# Altium schematic symbol library PDU_YEDEK.SchLib: 83 symbols (part 8 of 10)
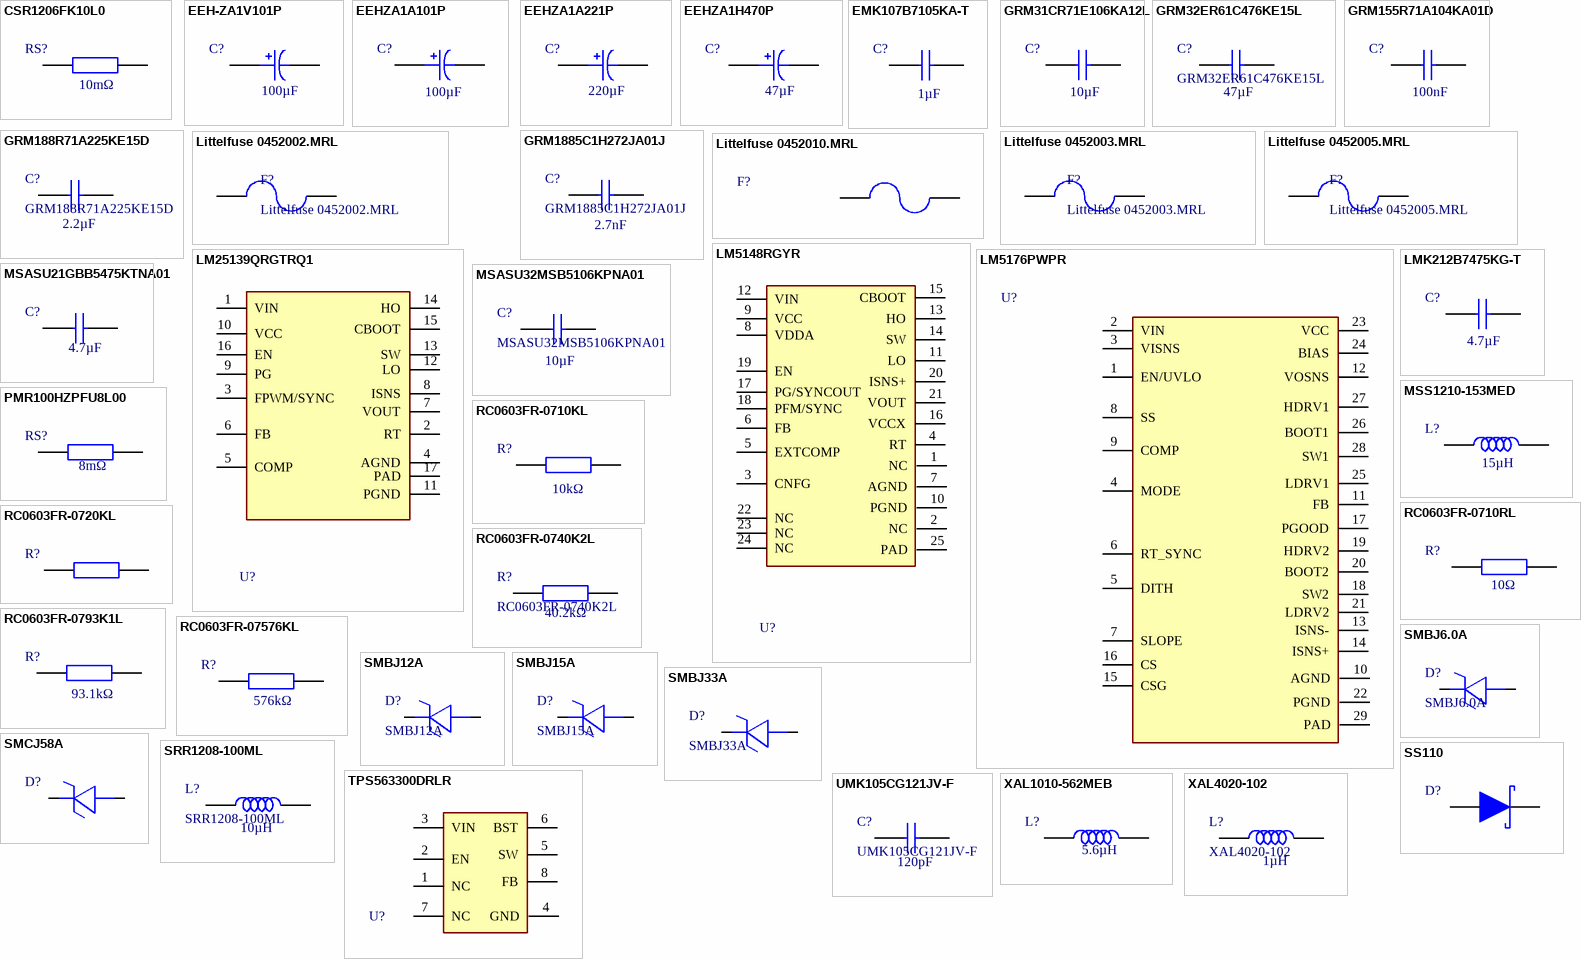
[diagram p9: symbols CSR1206FK10L0 to XAL4020‑102]

## LM5148RGYR
designator U?  (value not drawn)
3.5-V to 80-V, current mode synchronous buck controller 24-VQFN -40 to 125; Manufacturer: Texas Instruments; Manufacturer Lifecycle Status: ACTIVE; Max Duty Cycle: 100%; Max Junction Temperature (Tj): 150°C; Max Supply Voltage: 80V; Min Supply Voltage: 3.5V; Number of Outputs: 1; Output Current: 20A; Supplier: Mouser; Supplier Part Number: 595-LM5148RGYR; Manufacturer Part Number: LM5148RGYR; RoHS: Compliant; Category: Voltage Regulators - Switching; Stock: 7731; Pricing: 1=2,05, 10=1,52, 50=1,38, 100=1,24, 1000=1,09, 10000=1,04 (USD); Case/Package: VQFN; Height: 1mm; Length: 5.5mm; Lifecycle Status: Production; Max Operating Temperature: 125°C; Min Operating Temperature: -40°C; Pins: 24; Thickness: 900µm; Topology: Buck; Width: 3.5mm; ComponentLink1URL: https://octopart.com:443/opatz8j6/c1?t=k5HYukbKpAPwbY-87GrEenTJk9MNAaYavK5OGnMfo5xR5AheUhsW0QrQ__jAagB2G7ifgkNZ9LlbGgmastwPsycv2IuxuliPxyuY95BNxN18afFzmyufWtZk0CSFzD_-00jq0-d0ldnWKwAiLQLikyht430IWlpGJLcfLlqJhvIu1GeJ_Tp_edc5pT3Sfet7s6Qf0iT4HQFeU5M_DhcO5-saEgJOFs4UfDZINtzmQIr06dvlKuFFhuh85D68_nFjCJgw90UJc70QHIKhgZhI_J4VFggVK_UUHlgpmBeKA7mmUM_A-zyQhfTdxUopEqudTy3eaxTTW-bK-OyrTHR1mRCgULgnxMTN1KsRo7XVP9NWwtZL5E64bIOPOiG-shDPM5s02dQ&src-supplier=Texas+Instruments; ComponentLink1Description: https://octopart.com:443/opatz8j6/c1?t=k5HYukbKpAPwbY-87GrEenTJk9MNAaYavK5OGnMfo5xR5AheUhsW0QrQ__jAagB2G7ifgkNZ9LlbGgmastwPsycv2IuxuliPxyuY95BNxN18afFzmyufWtZk0CSFzD_-00jq0-d0ldnWKwAiLQLikyht430IWlpGJLcfLlqJhvIu1GeJ_Tp_edc5pT3Sfet7s6Qf0iT4HQFeU5M_DhcO5-saEgJOFs4UfDZINtzmQIr06dvlKuFFhuh85D68_nFjCJgw90UJc70QHIKhgZhI_J4VFggVK_UUHlgpmBeKA7mmUM_A-zyQhfTdxUopEqudTy3eaxTTW-bK-OyrTHR1mRCgULgnxMTN1KsRo7XVP9NWwtZL5E64bIOPOiG-shDPM5s02dQ&src-supplier=Texas+Instruments; ComponentLink2URL: https://datasheet.octopart.com:443/LM5148RGYR-Texas-Instruments-datasheet-170602647.pdf?src-supplier=Upverter; ComponentLink2Description: https://datasheet.octopart.com:443/LM5148RGYR-Texas-Instruments-datasheet-170602647.pdf?src-supplier=Upverter; ComponentLink3URL: http://sigma.octopart.com:80/reach_statement/Texas-Instruments-company-64.pdf?src-supplier=Compliance+Statements; ComponentLink3Description: http://sigma.octopart.com:80/reach_statement/Texas-Instruments-company-64.pdf?src-supplier=Compliance+Statements; ComponentLink4URL: http://sigma.octopart.com:80/conflict_mineral_statement/Texas-Instruments-company-63.pdf?src-supplier=Compliance+Statements; ComponentLink4Description: http://sigma.octopart.com:80/conflict_mineral_statement/Texas-Instruments-company-63.pdf?src-supplier=Compliance+Statements
pins: 1 NC, 2 NC, 3 CNFG, 4 RT, 5 EXTCOMP, 6 FB, 7 AGND, 8 VDDA, 9 VCC, 10 PGND, 11 LO, 12 VIN, 13 HO, 14 SW, 15 CBOOT, 16 VCCX, 17 PG/SYNCOUT, 18 PFM/SYNC, 19 EN, 20 ISNS+, 21 VOUT, 22 NC, 23 NC, 24 NC, 25 PAD

## LM5176PWPR
designator U?  (value not drawn)
55V wide VIN synchronous 4-switch buck-boost controller 28-HTSSOP -40 to 125; Manufacturer: Texas Instruments; Manufacturer Lifecycle Status: ACTIVE; Supplier: Mouser; Supplier Part Number: 595-LM5176PWPR; Manufacturer Part Number: LM5176PWPR; RoHS: Compliant; Category: Integrated Circuits (ICs); Pricing: 1=7,76, 10=6,01, 50=5,57, 100=5,09, 1000=4,6, 10000=4,49 (USD); Height: 1.2mm; Length: 9.7mm; Lifecycle Status: Production; Max Operating Temperature: 125°C; Min Operating Temperature: -40°C; Pins: 28; Schedule B: 8542390000, 8542390000|8542390000|8542390000|8542390000|8542390000; Thickness: 1mm; Topology: Buck-Boost; Width: 4.4mm; ComponentLink1URL: https://sigma.octopart.com:443/149651771/technical_drawing/Texas-Instruments-LM5176PWPR.pdf?src-supplier=Texas+Instruments; ComponentLink1Description: https://sigma.octopart.com:443/149651771/technical_drawing/Texas-Instruments-LM5176PWPR.pdf?src-supplier=Texas+Instruments; ComponentLink2URL: https://octopart.com:443/opatz8j6/c1?t=VRVCafI7s4bG6Zztb8L5r4sLVycBteGLKy5QNf2tGBRTrExigyXOC3PxYErzrsW-NWfD2akeI0Mwe2lBl-DnnI-aA4uHqNyZ5fJqmZ0gkornEqr1DphlO8x3EFdGiIoRxV-N_ppNlyskWHdhRPH9UFmqZ5vi8bQwXlyuc7Nt_alLaVBSszRnRlwkze-xCxAhCGWBAN-Y4Gck8wVEadC_CYKFUFw2xfWVguqijkFkfTQnnUqPAM6sWVKoaOeIfvvRLiDyuYhKva3w8gyjtartpVG7eUF3NFqkx_slddxatLizdWKM18OUpNkaXntHx7Rl8YrZdbA-8oy12CfJVVs4hKkeON3tTWmjAb9cDMFPN-JuPjzhCn8fsFGdUAdgH2v9CWvG&src-supplier=Texas+Instruments; ComponentLink2Description: https://octopart.com:443/opatz8j6/c1?t=VRVCafI7s4bG6Zztb8L5r4sLVycBteGLKy5QNf2tGBRTrExigyXOC3PxYErzrsW-NWfD2akeI0Mwe2lBl-DnnI-aA4uHqNyZ5fJqmZ0gkornEqr1DphlO8x3EFdGiIoRxV-N_ppNlyskWHdhRPH9UFmqZ5vi8bQwXlyuc7Nt_alLaVBSszRnRlwkze-xCxAhCGWBAN-Y4Gck8wVEadC_CYKFUFw2xfWVguqijkFkfTQnnUqPAM6sWVKoaOeIfvvRLiDyuYhKva3w8gyjtartpVG7eUF3NFqkx_slddxatLizdWKM18OUpNkaXntHx7Rl8YrZdbA-8oy12CfJVVs4hKkeON3tTWmjAb9cDMFPN-JuPjzhCn8fsFGdUAdgH2v9CWvG&src-supplier=Texas+Instruments; ComponentLink3URL: https://sigma.octopart.com:443/49250896/technical_drawing/Texas-Instruments-LM5176PWPR.pdf?src-supplier=Texas+Instruments; ComponentLink3Description: https://sigma.octopart.com:443/49250896/technical_drawing/Texas-Instruments-LM5176PWPR.pdf?src-supplier=Texas+Instruments; ComponentLink4URL: http://sigma.octopart.com:80/reach_statement/Texas-Instruments-company-64.pdf?src-supplier=Compliance+Statements; ComponentLink4Description: http://sigma.octopart.com:80/reach_statement/Texas-Instruments-company-64.pdf?src-supplier=Compliance+Statements; ComponentLink5URL: http://sigma.octopart.com:80/conflict_mineral_statement/Texas-Instruments-company-63.pdf?src-supplier=Compliance+Statements; ComponentLink5Description: http://sigma.octopart.com:80/conflict_mineral_statement/Texas-Instruments-company-63.pdf?src-supplier=Compliance+Statements
pins: 1 EN/UVLO, 2 VIN, 3 VISNS, 4 MODE, 5 DITH, 6 RT_SYNC, 7 SLOPE, 8 SS, 9 COMP, 10 AGND, 11 FB, 12 VOSNS, 13 ISNS-, 14 ISNS+, 15 CSG, 16 CS, 17 PGOOD, 18 SW2, 19 HDRV2, 20 BOOT2, 21 LDRV2, 22 PGND, 23 VCC, 24 BIAS, 25 LDRV1, 26 BOOT1, 27 HDRV1, 28 SW1, 29 PAD

## LM25139QRGTRQ1
designator U?  (value not drawn)
Automotive 42V input low-Iq buck controller with advanced spread spectrum for low EMI 16-VQFN -40 to 150; Manufacturer: Texas Instruments; Manufacturer Lifecycle Status: ACTIVE; Supplier: Arrow Electronics; Supplier Part Number: LM25139QRGTRQ1; Manufacturer Part Number: LM25139QRGTRQ1; RoHS: Compliant; Category: Integrated Circuits (ICs); Pricing: 3000=1,4038, 6000=1,3973, 9000=1,3906, 12000=1,384, 15000=1,3772, 21000=1,3704, 24000=1,3635, 30000=1,3565, 75000=1,3494 (USD); Case/Package: VQFN; Height: 1mm; Length: 3mm; Lifecycle Status: Production; Pins: 16; Thickness: 900µm; Width: 3mm; ComponentLink1URL: https://octopart.com:443/opatz8j6/c1?t=xWWGwO3ec4Sx5CX0X2qnIhfOHeHqh3WO1mWCu4fV70Hd-1hWOrNd3lhOLVAWMYEEdzkDMYq8UgUcPu2a5nJWOdgA0b1awjV5RgR9D21gaMlGiLRjb7yDuVOicm1d_02R7igS8Xl7-riSRfD_iig_z43OjN5LLsjZDt-zpIDOeZS1dmRgmlIMnUHEnLRcU50Rs-JpA3b7vouLRhIT49FH8fzbO6qOR_6mRAVC4kh14i2ZohtaykkOFzOvEuXGiEP1bYPJMrSXFUnpstjeZJ5v1PNY2ZRTlMohWo1i0R4TEEEijwc0FwBrv5FRwCkRRvUZM3VTnVJr8q7ERahnvQ1r2dQr48eXvtum-5d3g9rmVpLBhcUjM08_c0KTsN9BfI_8WmgwxHDs6sfT&src-supplier=Texas+Instruments; ComponentLink1Description: https://octopart.com:443/opatz8j6/c1?t=xWWGwO3ec4Sx5CX0X2qnIhfOHeHqh3WO1mWCu4fV70Hd-1hWOrNd3lhOLVAWMYEEdzkDMYq8UgUcPu2a5nJWOdgA0b1awjV5RgR9D21gaMlGiLRjb7yDuVOicm1d_02R7igS8Xl7-riSRfD_iig_z43OjN5LLsjZDt-zpIDOeZS1dmRgmlIMnUHEnLRcU50Rs-JpA3b7vouLRhIT49FH8fzbO6qOR_6mRAVC4kh14i2ZohtaykkOFzOvEuXGiEP1bYPJMrSXFUnpstjeZJ5v1PNY2ZRTlMohWo1i0R4TEEEijwc0FwBrv5FRwCkRRvUZM3VTnVJr8q7ERahnvQ1r2dQr48eXvtum-5d3g9rmVpLBhcUjM08_c0KTsN9BfI_8WmgwxHDs6sfT&src-supplier=Texas+Instruments; ComponentLink2URL: http://sigma.octopart.com:80/reach_statement/Texas-Instruments-company-64.pdf?src-supplier=Compliance+Statements; ComponentLink2Description: http://sigma.octopart.com:80/reach_statement/Texas-Instruments-company-64.pdf?src-supplier=Compliance+Statements; ComponentLink3URL: http://sigma.octopart.com:80/conflict_mineral_statement/Texas-Instruments-company-63.pdf?src-supplier=Compliance+Statements; ComponentLink3Description: http://sigma.octopart.com:80/conflict_mineral_statement/Texas-Instruments-company-63.pdf?src-supplier=Compliance+Statements
pins: 1 VIN, 2 RT, 3 FPWM/SYNC, 4 AGND, 5 COMP, 6 FB, 7 VOUT, 8 ISNS, 9 PG, 10 VCC, 11 PGND, 12 LO, 13 SW, 14 HO, 15 CBOOT, 16 EN, 17 PAD

## LMK212B7475KG-T
designator C?  value 4.7µF  (hidden comment: LMK212B7475KG-T)
10V 4.7uF X7R ±10% 0805 Multilayer Ceramic Capacitors MLCC - SMD/SMT ROHS; Manufacturer: TAIYO YUDEN; Manufacturer Package Identifier: 0805 (2012 metric); Supplier: Future Electronics; Supplier Part Number: LMK212B7475KG-T; Manufacturer Part Number: LMK212B7475KG-T; RoHS: Compliant; Category: Ceramic Capacitors; Stock: 486000; Pricing: 3000=0,0271, 9000=0,0264, 15000=0,0261, 30000=0,0257, 60000=0,025 (USD); Case/Package: 0805; Case Code (Imperial): 0805; Case Code (Metric): 2012; Country of Origin: Japan, Mainland China, Malaysia, South Korea; Dielectric: X7R; Dielectric Material: Ceramic; Export Control Classification Number (ECCN) Code: EAR99; Halogen Free: Halogen Free; Height: 1.25mm; Harmonized Tariff Schedule (HTS) Code: 8532.24.00.20; Introduction Date: 2008-08-30; Length: 2mm; Lifecycle Status: Production; LTB Date: 2026-03-31; LTD Date: 2026-03-31; Material: Ceramic; Max Length: 2.1mm; Max Operating Temperature: 125°C; Max Thickness: 1.35mm; Max Width: 1.35mm; Min Length: 1.9mm; Min Operating Temperature: -55°C; Min Thickness: 1.15mm; Min Width: 1.15mm; Mounting Technology: Surface Mount; Pins: 2; Number of Terminals: 2; REACH SVHC: Yes; Schedule B: 8532240020; Termination: SMD/SMT; Thickness: 1.3462mm; Tolerance: 10%; Voltage Rating: 10V; Voltage Rating (DC): 10V; Width: 1.25mm; ComponentLink1URL: https://datasheet.octopart.com:443/LMK212B7475KG-T-Taiyo-Yuden-datasheet-182109618.pdf?src-supplier=IHS; ComponentLink1Description: https://datasheet.octopart.com:443/LMK212B7475KG-T-Taiyo-Yuden-datasheet-182109618.pdf?src-supplier=IHS; ComponentLink2URL: https://datasheet.octopart.com:443/LMK212B7475KG-T-Taiyo-Yuden-datasheet-99833425.pdf?src-supplier=Upverter; ComponentLink2Description: https://datasheet.octopart.com:443/LMK212B7475KG-T-Taiyo-Yuden-datasheet-99833425.pdf?src-supplier=Upverter; ComponentLink3URL: https://datasheet.octopart.com:443/LMK212B7475KG-T-Taiyo-Yuden-datasheet-10851928.pdf?src-supplier=Farnell; ComponentLink3Description: https://datasheet.octopart.com:443/LMK212B7475KG-T-Taiyo-Yuden-datasheet-10851928.pdf?src-supplier=Farnell; ComponentLink4URL: https://datasheet.octopart.com:443/LMK212B7475KG-T-Taiyo-Yuden-datasheet-10254988.pdf?src-supplier=Farnell; ComponentLink4Description: https://datasheet.octopart.com:443/LMK212B7475KG-T-Taiyo-Yuden-datasheet-10254988.pdf?src-supplier=Farnell; ComponentLink5URL: https://datasheet.octopart.com:443/LMK212B7475KG-T-Taiyo-Yuden-datasheet-154807926.pdf?src-supplier=JRH+Electronics; ComponentLink5Description: https://datasheet.octopart.com:443/LMK212B7475KG-T-Taiyo-Yuden-datasheet-154807926.pdf?src-supplier=JRH+Electronics; ComponentLink6URL: https://datasheet.octopart.com:443/LMK212B7475KG-T-Taiyo-Yuden-datasheet-159617013.pdf?src-supplier=Newark; ComponentLink6Description: https://datasheet.octopart.com:443/LMK212B7475KG-T-Taiyo-Yuden-datasheet-159617013.pdf?src-supplier=Newark; ComponentLink7URL: https://datasheet.octopart.com:443/LMK212B7475KG-T-Taiyo-Yuden-datasheet-65850919.pdf?src-supplier=Newark; ComponentLink7Description: https://datasheet.octopart.com:443/LMK212B7475KG-T-Taiyo-Yuden-datasheet-65850919.pdf?src-supplier=Newark; ComponentLink8URL: https://datasheet.octopart.com:443/LMK212B7475KG-T-Taiyo-Yuden-datasheet-8857305.pdf?src-supplier=Newark; ComponentLink8Description: https://datasheet.octopart.com:443/LMK212B7475KG-T-Taiyo-Yuden-datasheet-8857305.pdf?src-supplier=Newark; ComponentLink9URL: https://datasheet.octopart.com:443/LMK212B7475KG-T-Taiyo-Yuden-datasheet-8434558.pdf?src-supplier=Newark; ComponentLink9Description: https://datasheet.octopart.com:443/LMK212B7475KG-T-Taiyo-Yuden-datasheet-8434558.pdf?src-supplier=Newark; ComponentLink10URL: https://datasheet.octopart.com:443/LMK212B7475KG-T-Taiyo-Yuden-datasheet-140424376.pdf?src-supplier=Master+Electronics; ComponentLink10Description: https://datasheet.octopart.com:443/LMK212B7475KG-T-Taiyo-Yuden-datasheet-140424376.pdf?src-supplier=Master+Electronics; ComponentLink11URL: https://datasheet.octopart.com/LMK212B7475KG-T-Taiyo-Yuden-datasheet-13694806.pdf; ComponentLink11Description: https://datasheet.octopart.com/LMK212B7475KG-T-Taiyo-Yuden-datasheet-13694806.pdf; ComponentLink12URL: https://datasheet.octopart.com:443/LMK212B7475KG-T-Taiyo-Yuden-datasheet-11762034.pdf?src-supplier=element14+APAC; ComponentLink12Description: https://datasheet.octopart.com:443/LMK212B7475KG-T-Taiyo-Yuden-datasheet-11762034.pdf?src-supplier=element14+APAC; ComponentLink13URL: https://datasheet.octopart.com:443/LMK212B7475KG-T-Taiyo-Yuden-datasheet-138738940.pdf?src-supplier=Taiyo+Yuden+SCT; ComponentLink13Description: https://datasheet.octopart.com:443/LMK212B7475KG-T-Taiyo-Yuden-datasheet-138738940.pdf?src-supplier=Taiyo+Yuden+SCT; ComponentLink14URL: https://datasheet.octopart.com:443/LMK212B7475KG-T-Taiyo-Yuden-datasheet-99784816.pdf?src-supplier=Future+Electronics; ComponentLink14Description: https://datasheet.octopart.com:443/LMK212B7475KG-T-Taiyo-Yuden-datasheet-99784816.pdf?src-supplier=Future+Electronics; ComponentLink15URL: https://datasheet.octopart.com:443/LMK212B7475KG-T-Taiyo-Yuden-datasheet-99833418.pdf?src-supplier=Future+Electronics; ComponentLink15Description: https://datasheet.octopart.com:443/LMK212B7475KG-T-Taiyo-Yuden-datasheet-99833418.pdf?src-supplier=Future+Electronics; ComponentLink16URL: https://datasheet.octopart.com:443/LMK212B7475KG-T-Taiyo-Yuden-datasheet-62109503.pdf?src-supplier=Electro+Sonic; ComponentLink16Description: https://datasheet.octopart.com:443/LMK212B7475KG-T-Taiyo-Yuden-datasheet-62109503.pdf?src-supplier=Electro+Sonic; ComponentLink17URL: https://datasheet.octopart.com:443/LMK212B7475KG-T-Taiyo-Yuden-datasheet-41181457.pdf?src-supplier=Electro+Sonic; ComponentLink17Description: https://datasheet.octopart.com:443/LMK212B7475KG-T-Taiyo-Yuden-datasheet-41181457.pdf?src-supplier=Electro+Sonic; ComponentLink18URL: https://datasheet.octopart.com:443/LMK212B7475KG-T-Taiyo-Yuden-datasheet-14433612.pdf?src-supplier=Factory+Futures; ComponentLink18Description: https://datasheet.octopart.com:443/LMK212B7475KG-T-Taiyo-Yuden-datasheet-14433612.pdf?src-supplier=Factory+Futures
pins: 1, 2

## MSASU21GBB5475KTNA01
designator C?  value 4.7µF  (hidden comment: MSASU21GBB5475KTNA01)
Ceramic Capacitor, Multilayer, Ceramic, 50V, 10% +Tol, 10% -Tol, X5R, 15% TC, 4.7uF, Surface Mount, 0805; Manufacturer: TAIYO YUDEN; Supplier: Avnet; Supplier Part Number: MSASU21GBB5475KTNA01; Manufacturer Part Number: MSASU21GBB5475KTNA01; RoHS: Compliant; Category: Ceramic Capacitors; Pricing: 3000=0,06229, 30000=0,05448, 300000=0,05335, 1800000=0,05308, 3600000=0,0528 (USD); Case/Package: 0805; Dielectric Material: Ceramic; Height: 1.25mm; Length: 2mm; Lifecycle Status: Production; Max Operating Temperature: 85°C; Min Operating Temperature: -55°C; Mounting Technology: Surface Mount; Number of Terminals: 2; REACH SVHC: Yes; Voltage Rating (DC): 50V; Width: 1.25mm; ComponentLink1URL: https://datasheet.octopart.com:443/MSASU21GBB5475KTNA01-Taiyo-Yuden-datasheet-182126628.pdf?src-supplier=IHS; ComponentLink1Description: https://datasheet.octopart.com:443/MSASU21GBB5475KTNA01-Taiyo-Yuden-datasheet-182126628.pdf?src-supplier=IHS
pins: 1, 2

## MSASU32MSB5106KPNA01
designator C?  value 10µF
Ceramic Capacitor, Multilayer, Ceramic, 50V, 10% +Tol, 10% -Tol, X5R, 15% TC, 10uF, Surface Mount, 1210; Manufacturer: TAIYO YUDEN; Supplier: Future Electronics; Supplier Part Number: MSASU32MSB5106KPNA01; Manufacturer Part Number: MSASU32MSB5106KPNA01; RoHS: Compliant; Category: Ceramic Capacitors; Stock: 5000; Pricing: 1000=0,171, 2000=0,168, 3000=0,167, 5000=0,166, 10000=0,162 (USD); Case/Package: 1210; Dielectric Material: Ceramic; Export Control Classification Number (ECCN) Code: EAR99; Height: 2.5mm; Harmonized Tariff Schedule (HTS) Code: 8532.24.00.20; Introduction Date: 2022-06-09; Length: 3.2mm; Lifecycle Status: Production; Max Operating Temperature: 85°C; Min Operating Temperature: -55°C; Mounting Technology: Surface Mount; Number of Terminals: 2; REACH SVHC: Yes; Voltage Rating (DC): 50V; Width: 2.5mm; ComponentLink1URL: https://datasheet.octopart.com:443/MSASU32MSB5106KPNA01-Taiyo-Yuden-datasheet-182126659.pdf?src-supplier=IHS; ComponentLink1Description: https://datasheet.octopart.com:443/MSASU32MSB5106KPNA01-Taiyo-Yuden-datasheet-182126659.pdf?src-supplier=IHS
pins: 1, 2

## MSS1210-153MED
designator L?  value 15µH  (hidden comment: MSS1210-153MED)
General Purpose Inductor, 15uH, 20%, 1 Element, Ferrite-Core, SMD, 4848, CHIP, 4747; Manufacturer: Coilcraft; DC Resistance (DCR): 22mΩ; Max Current Rating: 5.7A; Max DC Current: 8.7A; Number of Circuits: 1; Saturation Current: 8.3A; Self Resonant Frequency: 12MHz; Shielding: Shielded; Test Frequency: 100kHz; Supplier: Farnell; Supplier Part Number: MSS1210-153MED; Manufacturer Part Number: MSS1210-153MED; RoHS: Compliant; Category: Fixed Inductors; Stock: 1322; Pricing: 1=4,65, 10=4,42, 25=4,19, 50=3,96, 100=3,11, 300=2,49 (EUR); Case/Package: SMD/SMT; Core Material: Ferrite; Height: 10mm; Inductance Tolerance: 20%; Lead Free: Contains Lead; Length: 12mm; Lifecycle Status: Production; Max Operating Temperature: 85°C; Min Operating Temperature: -40°C; Mounting Technology: Surface Mount; Number of Terminals: 2; Packaging: Cut Tape; Ratings: AEC-Q200; REACH SVHC: Yes; RMS Current (Irms): 8.7A; Termination: SMD/SMT; Tolerance: 20%; Width: 12mm; ComponentLink1URL: https://datasheet.octopart.com:443/MSS1210-153MED-Coilcraft-datasheet-180119303.pdf?src-supplier=IHS; ComponentLink1Description: https://datasheet.octopart.com:443/MSS1210-153MED-Coilcraft-datasheet-180119303.pdf?src-supplier=IHS; ComponentLink2URL: https://datasheet.octopart.com:443/MSS1210-153MED-Coilcraft-datasheet-14354322.pdf?src-supplier=Newark; ComponentLink2Description: https://datasheet.octopart.com:443/MSS1210-153MED-Coilcraft-datasheet-14354322.pdf?src-supplier=Newark; ComponentLink3URL: https://datasheet.octopart.com:443/MSS1210-153MED-Coilcraft-datasheet-17369939.pdf?src-supplier=Coilcraft+Direct; ComponentLink3Description: https://datasheet.octopart.com:443/MSS1210-153MED-Coilcraft-datasheet-17369939.pdf?src-supplier=Coilcraft+Direct
pins: 1, 2

## PMR100HZPFU8L00
designator RS?  value 8mΩ  (hidden comment: PMR100HZPFU8L00)
Res Current Sense Thick Film 2512 8m Ohm 1% 2W Molded Emboss T/R; Manufacturer: ROHM; Temperature Coefficient: 100ppm/°C; Supplier: Arrow Electronics; Supplier Part Number: PMR100HZPFU8L00; Manufacturer Part Number: PMR100HZPFU8L00; RoHS: Compliant; Category: Chip SMD Resistors; Stock: 5; Pricing: 1=0,0146 (USD); Case/Package: 2512; Height: 320µm; Lead Free: Lead Free; Length: 6.4mm; Lifecycle Status: Production; Max Operating Temperature: 155°C; Min Operating Temperature: -55°C; Mounting Technology: Surface Mount; Number of Terminals: 2; Packaging: Cut Tape; Power Rating: 2W; REACH SVHC: Yes; Schedule B: 8533210045, 8533210045|8533210045, 8533210045|8533210045|8533210045, 8533210045|8533210045|8533210045|8533210045; Tolerance: 1%; Width: 3.2mm; ComponentLink1URL: https://datasheet.octopart.com:443/PMR100HZPFU8L00-ROHM-datasheet-182147691.pdf?src-supplier=IHS; ComponentLink1Description: https://datasheet.octopart.com:443/PMR100HZPFU8L00-ROHM-datasheet-182147691.pdf?src-supplier=IHS; ComponentLink2URL: https://datasheet.octopart.com:443/PMR100HZPFU8L00-Rohm-datasheet-70730905.pdf?src-supplier=Newark; ComponentLink2Description: https://datasheet.octopart.com:443/PMR100HZPFU8L00-Rohm-datasheet-70730905.pdf?src-supplier=Newark; ComponentLink3URL: https://datasheet.octopart.com:443/PMR100HZPFU8L00-Rohm-datasheet-115132289.pdf?src-supplier=Future+Electronics; ComponentLink3Description: https://datasheet.octopart.com:443/PMR100HZPFU8L00-Rohm-datasheet-115132289.pdf?src-supplier=Future+Electronics; ComponentLink4URL: https://datasheet.octopart.com:443/PMR100HZPFU8L00-Rohm-datasheet-79607662.pdf?src-supplier=Future+Electronics; ComponentLink4Description: https://datasheet.octopart.com:443/PMR100HZPFU8L00-Rohm-datasheet-79607662.pdf?src-supplier=Future+Electronics; ComponentLink5URL: https://datasheet.octopart.com:443/PMR100HZPFU8L00-Rohm-datasheet-13297471.pdf?src-supplier=Future+Electronics; ComponentLink5Description: https://datasheet.octopart.com:443/PMR100HZPFU8L00-Rohm-datasheet-13297471.pdf?src-supplier=Future+Electronics; ComponentLink6URL: https://datasheet.octopart.com:443/PMR100HZPFU8L00-Rohm-datasheet-12511488.pdf?src-supplier=Future+Electronics; ComponentLink6Description: https://datasheet.octopart.com:443/PMR100HZPFU8L00-Rohm-datasheet-12511488.pdf?src-supplier=Future+Electronics; ComponentLink7URL: https://datasheet.octopart.com:443/PMR100HZPFU8L00-Rohm-datasheet-12525732.pdf?src-supplier=Future+Electronics; ComponentLink7Description: https://datasheet.octopart.com:443/PMR100HZPFU8L00-Rohm-datasheet-12525732.pdf?src-supplier=Future+Electronics; ComponentLink8URL: https://datasheet.octopart.com:443/PMR100HZPFU8L00-Rohm-datasheet-12543072.pdf?src-supplier=Future+Electronics; ComponentLink8Description: https://datasheet.octopart.com:443/PMR100HZPFU8L00-Rohm-datasheet-12543072.pdf?src-supplier=Future+Electronics
pins: 1, 2

## RC0603FR-0710KL
designator R?  value 10kΩ  (hidden comment: RC0603FR-0710KL)
100mW Thick Film Resistors 75V ±100ppm/℃ ±1% 10kΩ 0603 Chip Resistor - Surface Mount ROHS; Manufacturer: Yageo Group; Temperature Coefficient: 100ppm/°C; Voltage Rating (DC): 50V; Supplier: Farnell; Supplier Part Number: RC0603FR-0710KL; Manufacturer Part Number: RC0603FR-0710KL; RoHS: Compliant; Category: Chip SMD Resistors; Stock: 11423000; Pricing: 5000=0,0037 (EUR); Case/Package: 0603; Case Code (Imperial): 0603; Case Code (Metric): 0603; China RoHS: Non-Compliant; Composition: Thick Film; Contact Plating: Tin; Depth: 800µm; Height: 450µm; Lead Free: Lead Free; Lead Pitch: 300µm; Length: 1.6mm; Lifecycle Status: Production; Max Operating Temperature: 155°C; Military Standard: Not; Min Operating Temperature: -55°C; Mounting Technology: Surface Mount; Pins: 2; Number of Terminals: 2; Packaging: Tape & Reel; Power Rating: 100mW; Radiation Hardening: No; REACH SVHC: Yes; Schedule B: 8533210045, 8533210045|8533210045|8533210045|8533210045|8533210045|8533210045|8533210045|8533210045|8533210045|8533210045|8533210045|8533210045|8533210045|8533210045|8533210045|8533210045|8533210045|8533210045|8533210045|8533210045|8533210045|8533210045|8533210045|85; Termination: SMD/SMT; Tolerance: 1%; Voltage Rating: 75V; Weight: 2.012816mg; Width: 800µm; Working Voltage: 75V; ComponentLink1URL: https://datasheet.octopart.com:443/RC0603FR-0710KL-Yageo-datasheet-175887523.pdf?src-supplier=IHS; ComponentLink1Description: https://datasheet.octopart.com:443/RC0603FR-0710KL-Yageo-datasheet-175887523.pdf?src-supplier=IHS; ComponentLink2URL: https://datasheet.octopart.com:443/RC0603FR-0710KL-Yageo-datasheet-103092701.pdf?src-supplier=Upverter; ComponentLink2Description: https://datasheet.octopart.com:443/RC0603FR-0710KL-Yageo-datasheet-103092701.pdf?src-supplier=Upverter; ComponentLink3URL: https://datasheet.octopart.com:443/RC0603FR-0710KL-Yageo-datasheet-98239111.pdf?src-supplier=Upverter; ComponentLink3Description: https://datasheet.octopart.com:443/RC0603FR-0710KL-Yageo-datasheet-98239111.pdf?src-supplier=Upverter; ComponentLink4URL: https://datasheet.octopart.com:443/RC0603FR-0710KL-Yageo-datasheet-141265859.pdf?src-supplier=Upverter; ComponentLink4Description: https://datasheet.octopart.com:443/RC0603FR-0710KL-Yageo-datasheet-141265859.pdf?src-supplier=Upverter; ComponentLink5URL: https://sigma.octopart.com:443/138820526/technical_drawing/Yageo-RC0603FR-0710KL.pdf?src-supplier=Upverter; ComponentLink5Description: https://sigma.octopart.com:443/138820526/technical_drawing/Yageo-RC0603FR-0710KL.pdf?src-supplier=Upverter; ComponentLink6URL: https://datasheet.octopart.com:443/RC0603FR-0710KL-Yageo-datasheet-8328172.pdf?src-supplier=Farnell; ComponentLink6Description: https://datasheet.octopart.com:443/RC0603FR-0710KL-Yageo-datasheet-8328172.pdf?src-supplier=Farnell; ComponentLink7URL: https://datasheet.octopart.com:443/RC0603FR-0710KL-Yageo-datasheet-13691069.pdf?src-supplier=Farnell; ComponentLink7Description: https://datasheet.octopart.com:443/RC0603FR-0710KL-Yageo-datasheet-13691069.pdf?src-supplier=Farnell; ComponentLink8URL: https://datasheet.octopart.com:443/RC0603FR-0710KL-Yageo-datasheet-62067350.pdf?src-supplier=element14+APAC; ComponentLink8Description: https://datasheet.octopart.com:443/RC0603FR-0710KL-Yageo-datasheet-62067350.pdf?src-supplier=element14+APAC; ComponentLink9URL: https://datasheet.octopart.com:443/RC0603FR-0710KL-Yageo-datasheet-17842380.pdf?src-supplier=element14+APAC; ComponentLink9Description: https://datasheet.octopart.com:443/RC0603FR-0710KL-Yageo-datasheet-17842380.pdf?src-supplier=element14+APAC; ComponentLink10URL: https://datasheet.octopart.com:443/RC0603FR-0710KL-Yageo-datasheet-15599030.pdf?src-supplier=Future+Electronics; ComponentLink10Description: https://datasheet.octopart.com:443/RC0603FR-0710KL-Yageo-datasheet-15599030.pdf?src-supplier=Future+Electronics; ComponentLink11URL: https://datasheet.octopart.com:443/RC0603FR-0710KL-Yageo-Group-datasheet-176638170.pdf?src-supplier=Future+Electronics; ComponentLink11Description: https://datasheet.octopart.com:443/RC0603FR-0710KL-Yageo-Group-datasheet-176638170.pdf?src-supplier=Future+Electronics; ComponentLink12URL: https://datasheet.octopart.com:443/RC0603FR-0710KL-Yageo-datasheet-164759695.pdf?src-supplier=Future+Electronics; ComponentLink12Description: https://datasheet.octopart.com:443/RC0603FR-0710KL-Yageo-datasheet-164759695.pdf?src-supplier=Future+Electronics; ComponentLink13URL: https://datasheet.octopart.com:443/RC0603FR-0710KL-Yageo-datasheet-127823281.pdf?src-supplier=Future+Electronics; ComponentLink13Description: https://datasheet.octopart.com:443/RC0603FR-0710KL-Yageo-datasheet-127823281.pdf?src-supplier=Future+Electronics; ComponentLink14URL: https://datasheet.octopart.com:443/RC0603FR-0710KL-Yageo-datasheet-137700087.pdf?src-supplier=Future+Electronics; ComponentLink14Description: https://datasheet.octopart.com:443/RC0603FR-0710KL-Yageo-datasheet-137700087.pdf?src-supplier=Future+Electronics; ComponentLink15URL: https://datasheet.octopart.com:443/RC0603FR-0710KL-Yageo-datasheet-27584510.pdf?src-supplier=Future+Electronics; ComponentLink15Description: https://datasheet.octopart.com:443/RC0603FR-0710KL-Yageo-datasheet-27584510.pdf?src-supplier=Future+Electronics; ComponentLink16URL: https://datasheet.octopart.com:443/RC0603FR-0710KL-Yageo-datasheet-8324193.pdf?src-supplier=Future+Electronics; ComponentLink16Description: https://datasheet.octopart.com:443/RC0603FR-0710KL-Yageo-datasheet-8324193.pdf?src-supplier=Future+Electronics; ComponentLink17URL: https://datasheet.octopart.com:443/RC0603FR-0710KL-Yageo-datasheet-12596169.pdf?src-supplier=Newark; ComponentLink17Description: https://datasheet.octopart.com:443/RC0603FR-0710KL-Yageo-datasheet-12596169.pdf?src-supplier=Newark; ComponentLink18URL: https://datasheet.octopart.com:443/RC0603FR-0710KL-Yageo-datasheet-503470.pdf?src-supplier=Newark; ComponentLink18Description: https://datasheet.octopart.com:443/RC0603FR-0710KL-Yageo-datasheet-503470.pdf?src-supplier=Newark; ComponentLink19URL: https://datasheet.octopart.com:443/RC0603FR-0710KL-Yageo-datasheet-34211833.pdf?src-supplier=Newark; ComponentLink19Description: https://datasheet.octopart.com:443/RC0603FR-0710KL-Yageo-datasheet-34211833.pdf?src-supplier=Newark; ComponentLink20URL: https://datasheet.octopart.com:443/RC0603FR-0710KL-Yageo-datasheet-79472498.pdf?src-supplier=Megastar; ComponentLink20Description: https://datasheet.octopart.com:443/RC0603FR-0710KL-Yageo-datasheet-79472498.pdf?src-supplier=Megastar; ComponentLink21URL: https://datasheet.octopart.com/RC0603FR-0710KL-Yageo-datasheet-73766026.pdf; ComponentLink21Description: https://datasheet.octopart.com/RC0603FR-0710KL-Yageo-datasheet-73766026.pdf; ComponentLink22URL: https://datasheet.octopart.com:443/RC0603FR-0710KL-Yageo-datasheet-118562.pdf?src-supplier=DigiKey; ComponentLink22Description: https://datasheet.octopart.com:443/RC0603FR-0710KL-Yageo-datasheet-118562.pdf?src-supplier=DigiKey; ComponentLink23URL: http://sigma.octopart.com:80/conflict_mineral_statement/Yageo-company-3.pdf?src-supplier=Compliance+Statements; ComponentLink23Description: http://sigma.octopart.com:80/conflict_mineral_statement/Yageo-company-3.pdf?src-supplier=Compliance+Statements; ComponentLink24URL: http://sigma.octopart.com:80/rohs_statement/Yageo-company-2.pdf?src-supplier=Compliance+Statements; ComponentLink24Description: http://sigma.octopart.com:80/rohs_statement/Yageo-company-2.pdf?src-supplier=Compliance+Statements
pins: 1, 2

## RC0603FR-0710RL
designator R?  value 10Ω  (hidden comment: RC0603FR-0710RL)
Res Thick Film 0603 10 Ohm 1% 0.1W(1/10W) ±200ppm/C Pad SMD T/R; Manufacturer: Yageo Group; Power Rating: 100mW; Temperature Coefficient: 200ppm/°C; Voltage Rating: 50V; Working Voltage: 75V; Supplier: Farnell; Supplier Part Number: RC0603FR-0710RL; Manufacturer Part Number: RC0603FR-0710RL; RoHS: Compliant; Category: Chip SMD Resistors; Stock: 404908; Pricing: 10=0,0095, 100=0,0086, 500=0,0075, 1000=0,0065, 2500=0,0054, 5000=0,0043 (EUR); Case/Package: 0603; Case Code (Imperial): 0603; Case Code (Metric): 0603; China RoHS: Non-Compliant; Composition: Thick Film; Contact Plating: Tin; Country of Origin: Mainland China, Taiwan; Depth: 800µm; Export Control Classification Number (ECCN) Code: EAR99; Height: 450µm; Harmonized Tariff Schedule (HTS) Code: 8533.21.00.30; Introduction Date: 2004-09-22; Lead Free: Lead Free; Length: 1.6mm; Lifecycle Status: Production; Max Operating Temperature: 155°C; Military Standard: Not; Min Operating Temperature: -55°C; Mounting Technology: Surface Mount; Pins: 2; Number of Terminals: 2; Packaging: Tape and Reel; Radiation Hardening: No; REACH SVHC: Yes; Schedule B: 8533210045, 8533210045|8533210045|8533210045|8533210045|8533210045|8533210045|8533210045|8533210045|8533210045|8533210045|8533210045|8533210045|8533210045|8533210045|8533210045|8533210045|8533210045|8533210045|8533210045|8533210045|8533210045|8533210045|8533210045|85; Termination: SMD/SMT; Tolerance: 1%; Voltage Rating (AC): 50V; Voltage Rating (DC): 50V; Width: 800µm; ComponentLink1URL: https://datasheet.octopart.com:443/RC0603FR-0710RL-Yageo-datasheet-175887523.pdf?src-supplier=IHS; ComponentLink1Description: https://datasheet.octopart.com:443/RC0603FR-0710RL-Yageo-datasheet-175887523.pdf?src-supplier=IHS; ComponentLink2URL: https://datasheet.octopart.com:443/RC0603FR-0710RL-Yageo-datasheet-62067350.pdf?src-supplier=Farnell; ComponentLink2Description: https://datasheet.octopart.com:443/RC0603FR-0710RL-Yageo-datasheet-62067350.pdf?src-supplier=Farnell; ComponentLink3URL: https://datasheet.octopart.com:443/RC0603FR-0710RL-Yageo-datasheet-13691069.pdf?src-supplier=Farnell; ComponentLink3Description: https://datasheet.octopart.com:443/RC0603FR-0710RL-Yageo-datasheet-13691069.pdf?src-supplier=Farnell; ComponentLink4URL: https://datasheet.octopart.com:443/RC0603FR-0710RL-Yageo-datasheet-103092701.pdf?src-supplier=Upverter; ComponentLink4Description: https://datasheet.octopart.com:443/RC0603FR-0710RL-Yageo-datasheet-103092701.pdf?src-supplier=Upverter; ComponentLink5URL: https://datasheet.octopart.com:443/RC0603FR-0710RL-Yageo-datasheet-98239111.pdf?src-supplier=Upverter; ComponentLink5Description: https://datasheet.octopart.com:443/RC0603FR-0710RL-Yageo-datasheet-98239111.pdf?src-supplier=Upverter; ComponentLink6URL: https://datasheet.octopart.com:443/RC0603FR-0710RL-Yageo-datasheet-79472498.pdf?src-supplier=Upverter; ComponentLink6Description: https://datasheet.octopart.com:443/RC0603FR-0710RL-Yageo-datasheet-79472498.pdf?src-supplier=Upverter; ComponentLink7URL: https://datasheet.octopart.com:443/RC0603FR-0710RL-Yageo-datasheet-8328172.pdf?src-supplier=element14+APAC; ComponentLink7Description: https://datasheet.octopart.com:443/RC0603FR-0710RL-Yageo-datasheet-8328172.pdf?src-supplier=element14+APAC; ComponentLink8URL: https://datasheet.octopart.com:443/RC0603FR-0710RL-Yageo-Group-datasheet-176638170.pdf?src-supplier=Future+Electronics; ComponentLink8Description: https://datasheet.octopart.com:443/RC0603FR-0710RL-Yageo-Group-datasheet-176638170.pdf?src-supplier=Future+Electronics; ComponentLink9URL: https://datasheet.octopart.com:443/RC0603FR-0710RL-Yageo-datasheet-164759695.pdf?src-supplier=Future+Electronics; ComponentLink9Description: https://datasheet.octopart.com:443/RC0603FR-0710RL-Yageo-datasheet-164759695.pdf?src-supplier=Future+Electronics; ComponentLink10URL: https://datasheet.octopart.com:443/RC0603FR-0710RL-Yageo-datasheet-137700087.pdf?src-supplier=Future+Electronics; ComponentLink10Description: https://datasheet.octopart.com:443/RC0603FR-0710RL-Yageo-datasheet-137700087.pdf?src-supplier=Future+Electronics; ComponentLink11URL: https://datasheet.octopart.com:443/RC0603FR-0710RL-Yageo-datasheet-27584510.pdf?src-supplier=Future+Electronics; ComponentLink11Description: https://datasheet.octopart.com:443/RC0603FR-0710RL-Yageo-datasheet-27584510.pdf?src-supplier=Future+Electronics; ComponentLink12URL: https://datasheet.octopart.com:443/RC0603FR-0710RL-Yageo-datasheet-15599030.pdf?src-supplier=Future+Electronics; ComponentLink12Description: https://datasheet.octopart.com:443/RC0603FR-0710RL-Yageo-datasheet-15599030.pdf?src-supplier=Future+Electronics; ComponentLink13URL: https://datasheet.octopart.com:443/RC0603FR-0710RL-Yageo-datasheet-12596169.pdf?src-supplier=Future+Electronics; ComponentLink13Description: https://datasheet.octopart.com:443/RC0603FR-0710RL-Yageo-datasheet-12596169.pdf?src-supplier=Future+Electronics; ComponentLink14URL: https://datasheet.octopart.com:443/RC0603FR-0710RL-Yageo-datasheet-8324193.pdf?src-supplier=Future+Electronics; ComponentLink14Description: https://datasheet.octopart.com:443/RC0603FR-0710RL-Yageo-datasheet-8324193.pdf?src-supplier=Future+Electronics; ComponentLink15URL: https://datasheet.octopart.com:443/RC0603FR-0710RL-Yageo-datasheet-34211833.pdf?src-supplier=Newark; ComponentLink15Description: https://datasheet.octopart.com:443/RC0603FR-0710RL-Yageo-datasheet-34211833.pdf?src-supplier=Newark; ComponentLink16URL: https://datasheet.octopart.com/RC0603FR-0710RL-Yageo-datasheet-73766026.pdf; ComponentLink16Description: https://datasheet.octopart.com/RC0603FR-0710RL-Yageo-datasheet-73766026.pdf; ComponentLink17URL: https://datasheet.octopart.com:443/RC0603FR-0710RL-Yageo-datasheet-30459151.pdf?src-supplier=Seeed+Studio; ComponentLink17Description: https://datasheet.octopart.com:443/RC0603FR-0710RL-Yageo-datasheet-30459151.pdf?src-supplier=Seeed+Studio; ComponentLink18URL: https://datasheet.octopart.com:443/RC0603FR-0710RL-Yageo-datasheet-14181472.pdf?src-supplier=iiiC; ComponentLink18Description: https://datasheet.octopart.com:443/RC0603FR-0710RL-Yageo-datasheet-14181472.pdf?src-supplier=iiiC; ComponentLink19URL: https://datasheet.octopart.com:443/RC0603FR-0710RL-Yageo-datasheet-118562.pdf?src-supplier=DigiKey; ComponentLink19Description: https://datasheet.octopart.com:443/RC0603FR-0710RL-Yageo-datasheet-118562.pdf?src-supplier=DigiKey; ComponentLink20URL: http://sigma.octopart.com:80/conflict_mineral_statement/Yageo-company-3.pdf?src-supplier=Compliance+Statements; ComponentLink20Description: http://sigma.octopart.com:80/conflict_mineral_statement/Yageo-company-3.pdf?src-supplier=Compliance+Statements; ComponentLink21URL: http://sigma.octopart.com:80/rohs_statement/Yageo-company-2.pdf?src-supplier=Compliance+Statements; ComponentLink21Description: http://sigma.octopart.com:80/rohs_statement/Yageo-company-2.pdf?src-supplier=Compliance+Statements
pins: 1, 2

## RC0603FR-0720KL
designator R?  (value not drawn)
100mW Thick Film Resistors 75V ±100ppm/℃ ±1% 20kΩ 0603 Chip Resistor - Surface Mount ROHS; Manufacturer: Yageo Group; Temperature Coefficient: 100ppm/°C; Voltage Rating (DC): 50V; Supplier: Farnell; Supplier Part Number: RC0603FR-0720KL; Manufacturer Part Number: RC0603FR-0720KL; RoHS: Compliant; Category: Chip SMD Resistors; Stock: 240893; Pricing: 10=0,0067, 100=0,0057, 500=0,0056, 1000=0,0054, 2500=0,0042 (EUR); Case/Package: 0603; Case Code (Imperial): 0603; China RoHS: Non-Compliant; Composition: Thick Film; Contact Plating: Tin; Country of Origin: Mainland China, Taiwan; Depth: 800µm; Export Control Classification Number (ECCN) Code: EAR99; Features: Moisture Resistant; Height: 450µm; Harmonized Tariff Schedule (HTS) Code: 8533.21.00.30; Introduction Date: 2004-10-04; Lead Free: Lead Free; Length: 1.6mm; Lifecycle Status: Production; Max Operating Temperature: 155°C; Max Power Dissipation: 100mW; Military Standard: Not; Min Operating Temperature: -55°C; Mounting Technology: Surface Mount; Pins: 2; Number of Terminals: 2; Number of Terminations: 2; Packaging: Tape & Reel; Power Rating: 100mW; Radiation Hardening: No; REACH SVHC: Yes; Value: 20kΩ; Schedule B: 8533210045, 8533210045|8533210045|8533210045|8533210045|8533210045|8533210045|8533210045|8533210045|8533210045|8533210045|8533210045|8533210045|8533210045|8533210045, 8533210045|8533210045|8533210045|8533210045|8533210045|8533210045|8533210045|8533210045|8533210045|8533210045|8533210045|8533210045|8533210045|8533210045|8533210045, 8533210045|8533210045|8533210045|8533210045|8533210045|8533210045|8533210045|8533210045|8533210045|8533210045|8533210045|8533210045|8533210045|8533210045|8533210045|8533210045; Termination: SMD/SMT; Tolerance: 1%; Voltage Rating: 75V; Width: 800µm; Working Voltage: 75V; ComponentLink1URL: https://datasheet.octopart.com:443/RC0603FR-0720KL-Yageo-datasheet-175887523.pdf?src-supplier=IHS; ComponentLink1Description: https://datasheet.octopart.com:443/RC0603FR-0720KL-Yageo-datasheet-175887523.pdf?src-supplier=IHS; ComponentLink2URL: https://datasheet.octopart.com:443/RC0603FR-0720KL-Yageo-datasheet-141265859.pdf?src-supplier=Upverter; ComponentLink2Description: https://datasheet.octopart.com:443/RC0603FR-0720KL-Yageo-datasheet-141265859.pdf?src-supplier=Upverter; ComponentLink3URL: https://datasheet.octopart.com:443/RC0603FR-0720KL-Yageo-datasheet-103092701.pdf?src-supplier=Upverter; ComponentLink3Description: https://datasheet.octopart.com:443/RC0603FR-0720KL-Yageo-datasheet-103092701.pdf?src-supplier=Upverter; ComponentLink4URL: https://sigma.octopart.com:443/138820526/technical_drawing/Yageo-RC0603FR-0720KL.pdf?src-supplier=Upverter; ComponentLink4Description: https://sigma.octopart.com:443/138820526/technical_drawing/Yageo-RC0603FR-0720KL.pdf?src-supplier=Upverter; ComponentLink5URL: https://datasheet.octopart.com:443/RC0603FR-0720KL-Yageo-datasheet-8328172.pdf?src-supplier=Burklin+Elektronik; ComponentLink5Description: https://datasheet.octopart.com:443/RC0603FR-0720KL-Yageo-datasheet-8328172.pdf?src-supplier=Burklin+Elektronik; ComponentLink6URL: https://datasheet.octopart.com:443/RC0603FR-0720KL-Yageo-Group-datasheet-190305687.pdf?src-supplier=Newark; ComponentLink6Description: https://datasheet.octopart.com:443/RC0603FR-0720KL-Yageo-Group-datasheet-190305687.pdf?src-supplier=Newark; ComponentLink7URL: https://datasheet.octopart.com:443/RC0603FR-0720KL-Yageo-datasheet-34211833.pdf?src-supplier=element14+APAC; ComponentLink7Description: https://datasheet.octopart.com:443/RC0603FR-0720KL-Yageo-datasheet-34211833.pdf?src-supplier=element14+APAC; ComponentLink8URL: https://datasheet.octopart.com:443/RC0603FR-0720KL-Yageo-datasheet-62067350.pdf?src-supplier=Farnell; ComponentLink8Description: https://datasheet.octopart.com:443/RC0603FR-0720KL-Yageo-datasheet-62067350.pdf?src-supplier=Farnell; ComponentLink9URL: https://datasheet.octopart.com:443/RC0603FR-0720KL-Yageo-Group-datasheet-176638170.pdf?src-supplier=Future+Electronics; ComponentLink9Description: https://datasheet.octopart.com:443/RC0603FR-0720KL-Yageo-Group-datasheet-176638170.pdf?src-supplier=Future+Electronics; ComponentLink10URL: https://datasheet.octopart.com:443/RC0603FR-0720KL-Yageo-datasheet-164759695.pdf?src-supplier=Future+Electronics; ComponentLink10Description: https://datasheet.octopart.com:443/RC0603FR-0720KL-Yageo-datasheet-164759695.pdf?src-supplier=Future+Electronics; ComponentLink11URL: https://datasheet.octopart.com:443/RC0603FR-0720KL-Yageo-datasheet-137700087.pdf?src-supplier=Future+Electronics; ComponentLink11Description: https://datasheet.octopart.com:443/RC0603FR-0720KL-Yageo-datasheet-137700087.pdf?src-supplier=Future+Electronics; ComponentLink12URL: https://datasheet.octopart.com:443/RC0603FR-0720KL-Yageo-datasheet-15599030.pdf?src-supplier=Future+Electronics; ComponentLink12Description: https://datasheet.octopart.com:443/RC0603FR-0720KL-Yageo-datasheet-15599030.pdf?src-supplier=Future+Electronics; ComponentLink13URL: https://datasheet.octopart.com:443/RC0603FR-0720KL-Yageo-datasheet-12596169.pdf?src-supplier=Future+Electronics; ComponentLink13Description: https://datasheet.octopart.com:443/RC0603FR-0720KL-Yageo-datasheet-12596169.pdf?src-supplier=Future+Electronics; ComponentLink14URL: https://datasheet.octopart.com:443/RC0603FR-0720KL-Yageo-datasheet-8324193.pdf?src-supplier=Future+Electronics; ComponentLink14Description: https://datasheet.octopart.com:443/RC0603FR-0720KL-Yageo-datasheet-8324193.pdf?src-supplier=Future+Electronics; ComponentLink15URL: https://datasheet.octopart.com:443/RC0603FR-0720KL-Yageo-datasheet-79472498.pdf?src-supplier=Megastar; ComponentLink15Description: https://datasheet.octopart.com:443/RC0603FR-0720KL-Yageo-datasheet-79472498.pdf?src-supplier=Megastar; ComponentLink16URL: https://datasheet.octopart.com/RC0603FR-0720KL-Yageo-datasheet-73766026.pdf; ComponentLink16Description: https://datasheet.octopart.com/RC0603FR-0720KL-Yageo-datasheet-73766026.pdf; ComponentLink17URL: https://datasheet.octopart.com:443/RC0603FR-0720KL-Yageo-datasheet-30459151.pdf?src-supplier=Seeed+Studio; ComponentLink17Description: https://datasheet.octopart.com:443/RC0603FR-0720KL-Yageo-datasheet-30459151.pdf?src-supplier=Seeed+Studio; ComponentLink18URL: https://datasheet.octopart.com:443/RC0603FR-0720KL-Yageo-datasheet-118562.pdf?src-supplier=DigiKey; ComponentLink18Description: https://datasheet.octopart.com:443/RC0603FR-0720KL-Yageo-datasheet-118562.pdf?src-supplier=DigiKey; ComponentLink19URL: http://sigma.octopart.com:80/conflict_mineral_statement/Yageo-company-3.pdf?src-supplier=Compliance+Statements; ComponentLink19Description: http://sigma.octopart.com:80/conflict_mineral_statement/Yageo-company-3.pdf?src-supplier=Compliance+Statements; ComponentLink20URL: http://sigma.octopart.com:80/rohs_statement/Yageo-company-2.pdf?src-supplier=Compliance+Statements; ComponentLink20Description: http://sigma.octopart.com:80/rohs_statement/Yageo-company-2.pdf?src-supplier=Compliance+Statements
pins: 1, 2

## RC0603FR-0740K2L
designator R?  value 40.2kΩ
Res Thick Film 0603 40.2K Ohm 1% 0.1W(1/10W) ±100ppm/C Pad SMD T/R; Manufacturer: Yageo Group; Power Rating: 100mW; Temperature Coefficient: 100ppm/°C; Voltage Rating: 75V; Voltage Rating (DC): 50V; Supplier: Farnell; Supplier Part Number: RC0603FR-0740K2L; Manufacturer Part Number: RC0603FR-0740K2L; RoHS: Compliant; Category: Chip SMD Resistors; Stock: 12210; Pricing: 10=0,0071, 100=0,0061, 500=0,006, 1000=0,0058, 2500=0,0045 (EUR); Case/Package: 0603; Case Code (Imperial): 0603; China RoHS: Non-Compliant; Composition: Thick Film; Country of Origin: Mainland China, Taiwan; Depth: 800µm; Export Control Classification Number (ECCN) Code: EAR99; Height: 450µm; Harmonized Tariff Schedule (HTS) Code: 8533.21.00.30; Introduction Date: 2004-09-22; Lead Free: Lead Free; Length: 1.6mm; Lifecycle Status: Production; Max Operating Temperature: 155°C; Military Standard: Not; Min Operating Temperature: -55°C; Mounting Technology: Surface Mount; Number of Terminals: 2; Number of Terminations: 2; Packaging: Cut Tape (CT); REACH SVHC: Yes; Schedule B: 8533210045, 8533210045|8533210045, 8533210045|8533210045|8533210045, 8533210045|8533210045|8533210045|8533210045; Termination: SMD/SMT; Tolerance: 1%; Width: 800µm; Working Voltage: 75V; ComponentLink1URL: https://datasheet.octopart.com:443/RC0603FR-0740K2L-Yageo-datasheet-175887523.pdf?src-supplier=IHS; ComponentLink1Description: https://datasheet.octopart.com:443/RC0603FR-0740K2L-Yageo-datasheet-175887523.pdf?src-supplier=IHS; ComponentLink2URL: https://datasheet.octopart.com:443/RC0603FR-0740K2L-Yageo-datasheet-8328172.pdf?src-supplier=Upverter; ComponentLink2Description: https://datasheet.octopart.com:443/RC0603FR-0740K2L-Yageo-datasheet-8328172.pdf?src-supplier=Upverter; ComponentLink3URL: https://datasheet.octopart.com:443/RC0603FR-0740K2L-Yageo-datasheet-141265859.pdf?src-supplier=Upverter; ComponentLink3Description: https://datasheet.octopart.com:443/RC0603FR-0740K2L-Yageo-datasheet-141265859.pdf?src-supplier=Upverter; ComponentLink4URL: https://datasheet.octopart.com:443/RC0603FR-0740K2L-Yageo-datasheet-103092701.pdf?src-supplier=Upverter; ComponentLink4Description: https://datasheet.octopart.com:443/RC0603FR-0740K2L-Yageo-datasheet-103092701.pdf?src-supplier=Upverter; ComponentLink5URL: https://sigma.octopart.com:443/138820526/technical_drawing/Yageo-RC0603FR-0740K2L.pdf?src-supplier=Upverter; ComponentLink5Description: https://sigma.octopart.com:443/138820526/technical_drawing/Yageo-RC0603FR-0740K2L.pdf?src-supplier=Upverter; ComponentLink6URL: https://datasheet.octopart.com:443/RC0603FR-0740K2L-Yageo-datasheet-79472498.pdf?src-supplier=Upverter; ComponentLink6Description: https://datasheet.octopart.com:443/RC0603FR-0740K2L-Yageo-datasheet-79472498.pdf?src-supplier=Upverter; ComponentLink7URL: https://datasheet.octopart.com:443/RC0603FR-0740K2L-Yageo-Group-datasheet-190305687.pdf?src-supplier=Future+Electronics; ComponentLink7Description: https://datasheet.octopart.com:443/RC0603FR-0740K2L-Yageo-Group-datasheet-190305687.pdf?src-supplier=Future+Electronics; ComponentLink8URL: https://datasheet.octopart.com:443/RC0603FR-0740K2L-Yageo-datasheet-164759695.pdf?src-supplier=Future+Electronics; ComponentLink8Description: https://datasheet.octopart.com:443/RC0603FR-0740K2L-Yageo-datasheet-164759695.pdf?src-supplier=Future+Electronics; ComponentLink9URL: https://datasheet.octopart.com:443/RC0603FR-0740K2L-Yageo-datasheet-137700087.pdf?src-supplier=Future+Electronics; ComponentLink9Description: https://datasheet.octopart.com:443/RC0603FR-0740K2L-Yageo-datasheet-137700087.pdf?src-supplier=Future+Electronics; ComponentLink10URL: https://datasheet.octopart.com:443/RC0603FR-0740K2L-Yageo-datasheet-15599030.pdf?src-supplier=Future+Electronics; ComponentLink10Description: https://datasheet.octopart.com:443/RC0603FR-0740K2L-Yageo-datasheet-15599030.pdf?src-supplier=Future+Electronics; ComponentLink11URL: https://datasheet.octopart.com:443/RC0603FR-0740K2L-Yageo-datasheet-12596169.pdf?src-supplier=Future+Electronics; ComponentLink11Description: https://datasheet.octopart.com:443/RC0603FR-0740K2L-Yageo-datasheet-12596169.pdf?src-supplier=Future+Electronics; ComponentLink12URL: https://datasheet.octopart.com:443/RC0603FR-0740K2L-Yageo-datasheet-503470.pdf?src-supplier=Future+Electronics; ComponentLink12Description: https://datasheet.octopart.com:443/RC0603FR-0740K2L-Yageo-datasheet-503470.pdf?src-supplier=Future+Electronics; ComponentLink13URL: https://datasheet.octopart.com/RC0603FR-0740K2L-Yageo-datasheet-73766026.pdf; ComponentLink13Description: https://datasheet.octopart.com/RC0603FR-0740K2L-Yageo-datasheet-73766026.pdf; ComponentLink14URL: https://datasheet.octopart.com:443/RC0603FR-0740K2L-Yageo-datasheet-118562.pdf?src-supplier=DigiKey; ComponentLink14Description: https://datasheet.octopart.com:443/RC0603FR-0740K2L-Yageo-datasheet-118562.pdf?src-supplier=DigiKey; ComponentLink15URL: https://datasheet.octopart.com:443/RC0603FR-0740K2L-Yageo-datasheet-62067350.pdf?src-supplier=Newark; ComponentLink15Description: https://datasheet.octopart.com:443/RC0603FR-0740K2L-Yageo-datasheet-62067350.pdf?src-supplier=Newark; ComponentLink16URL: http://sigma.octopart.com:80/conflict_mineral_statement/Yageo-company-3.pdf?src-supplier=Compliance+Statements; ComponentLink16Description: http://sigma.octopart.com:80/conflict_mineral_statement/Yageo-company-3.pdf?src-supplier=Compliance+Statements; ComponentLink17URL: http://sigma.octopart.com:80/rohs_statement/Yageo-company-2.pdf?src-supplier=Compliance+Statements; ComponentLink17Description: http://sigma.octopart.com:80/rohs_statement/Yageo-company-2.pdf?src-supplier=Compliance+Statements
pins: 1, 2